# Altium footprint library PcbLib1.PcbLib: 1 footprints
Each footprint in its own frame and in the unit in brackets; x right, y up, seen from the top. Pads: shape width x height; smd on the part's side, far side on the other; paste and mask are expansions set on the pad; w line width, h text height; cw(c..) or ccw(c..) is an arc to the next point about the centre after c.
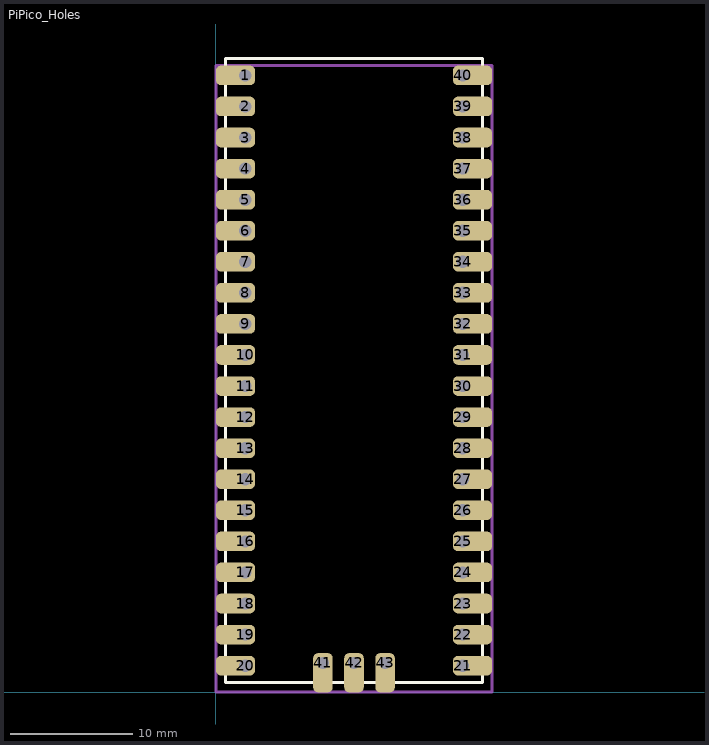
[diagram p0: the footprint, top view; thin cyan lines are the x and y axes]

## PiPico_Holes [mm]
pads (43):
  rrect50% 3.2x1.6 hole 1 copper offset -0.8,0: 1(2.4,50.43) 2(2.4,47.89) 3(2.4,45.35) 4(2.4,42.81) 5(2.4,40.27) 6(2.4,37.73) 7(2.4,35.19) 8(2.4,32.65) 9(2.4,30.11) 10(2.4,27.57) 11(2.4,25.03) 12(2.4,22.49) 13(2.4,19.95) 14(2.4,17.41) 15(2.4,14.87) 16(2.4,12.33) 17(2.4,9.79) 18(2.4,7.25) 19(2.4,4.71) 20(2.4,2.17)
  rrect50% 3.2x1.6 hole 1 copper offset 0.8,0: 21(20.18,2.17) 22(20.18,4.71) 23(20.18,7.25) 24(20.18,9.79) 25(20.18,12.33) 26(20.18,14.87) 27(20.18,17.41) 28(20.18,19.95) 29(20.18,22.49) 30(20.18,25.03) 31(20.18,27.57) 32(20.18,30.11) 33(20.18,32.65) 34(20.18,35.19) 35(20.18,37.73) 36(20.18,40.27) 37(20.18,42.81) 38(20.18,45.35) 39(20.18,47.89) 40(20.18,50.43)
  rrect50% 1.6x3.2 hole 1 copper offset 0,-0.8: 41(8.75,2.39) 42(11.29,2.39) 43(13.83,2.39)
Top Overlay:
  lines w0.254: 0.79,0.8 21.79,0.8 21.79,51.8 0.79,51.8 0.79,0.8
Mechanical 1:
  lines w0.254: 0,0 22.58,0 22.58,51.23 0,51.23 0,0
3D body "Pico-R3.step": height 3.74, standoff 0.01, extent 0.79,0.8 21.79,53.1